# EAGLE library part PCA9685PW_Q900,118 (library PCA9685PW_Q900_118)
NXP - PCA9685PW/Q900,118 - LED DRIVER, AEC-Q100, 16-CH, TSSOP-20 Source: Datasheet <http://www.nxp.com/docs/en/data-sheet/PCA9685.pdf>
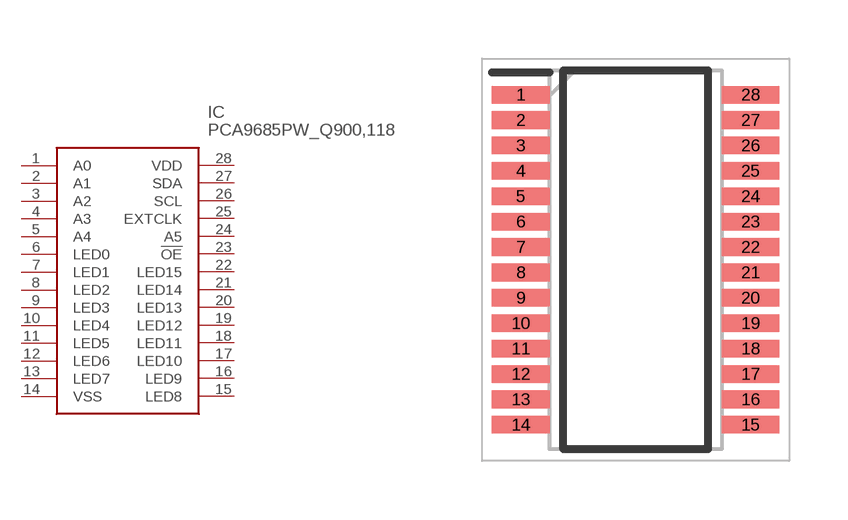
[diagram p0: symbol with the pads of SOP65P640X110-28N; footprint SOP65P640X110-28N]

Designator prefix IC

## PCA9685PW_Q900,118 (Description: NXP - PCA9685PW/Q900,118 - LED DRIVER, AEC-Q100, 16-CH, TSSOP-20; Height: 1.1mm; Manufacturer_Name: NXP; Manufacturer_Part_Number: PCA9685PW/Q900,118; Mouser_Part_Number: 771-PCA9685PWQ900118; Mouser_Price-Stock: https://www.mouser.co.uk/ProductDetail/NXP-Semiconductors/PCA9685PW-Q900118?qs=MWRe%252BjyhxRtZfKNN86P1Tg%3D%3D)  [SOP65P640X110-28N]
1  A0
2  A1
3  A2
4  A3
5  A4
6  LED0
7  LED1
8  LED2
9  LED3
10  LED4
11  LED5
12  LED6
13  LED7
14  VSS
15  LED8
16  LED9
17  LED10
18  LED11
19  LED12
20  LED13
21  LED14
22  LED15
23  !OE
24  A5
25  EXTCLK
26  SCL
27  SDA
28  VDD

## Footprint SOP65P640X110-28N (pad centres in mm)
PCA9685PW/Q900,118
smd 1.475 x 0.45: 1 -2.938,4.225; 2 -2.938,3.575; 3 -2.938,2.925; 4 -2.938,2.275; 5 -2.938,1.625; 6 -2.938,0.975; 7 -2.938,0.325; 8 -2.938,-0.325; 9 -2.938,-0.975; 10 -2.938,-1.625; 11 -2.938,-2.275; 12 -2.938,-2.925; 13 -2.938,-3.575; 14 -2.938,-4.225; 15 2.938,-4.225; 16 2.938,-3.575; 17 2.938,-2.925; 18 2.938,-2.275; 19 2.938,-1.625; 20 2.938,-0.975; 21 2.938,-0.325; 22 2.938,0.325; 23 2.938,0.975; 24 2.938,1.625; 25 2.938,2.275; 26 2.938,2.925; 27 2.938,3.575; 28 2.938,4.225